# EAGLE library part ESP32-U4WDH (library my-EspressifSystems)
RF System on a Chip - SoC SMD IC WiFi Single Core BT Combo
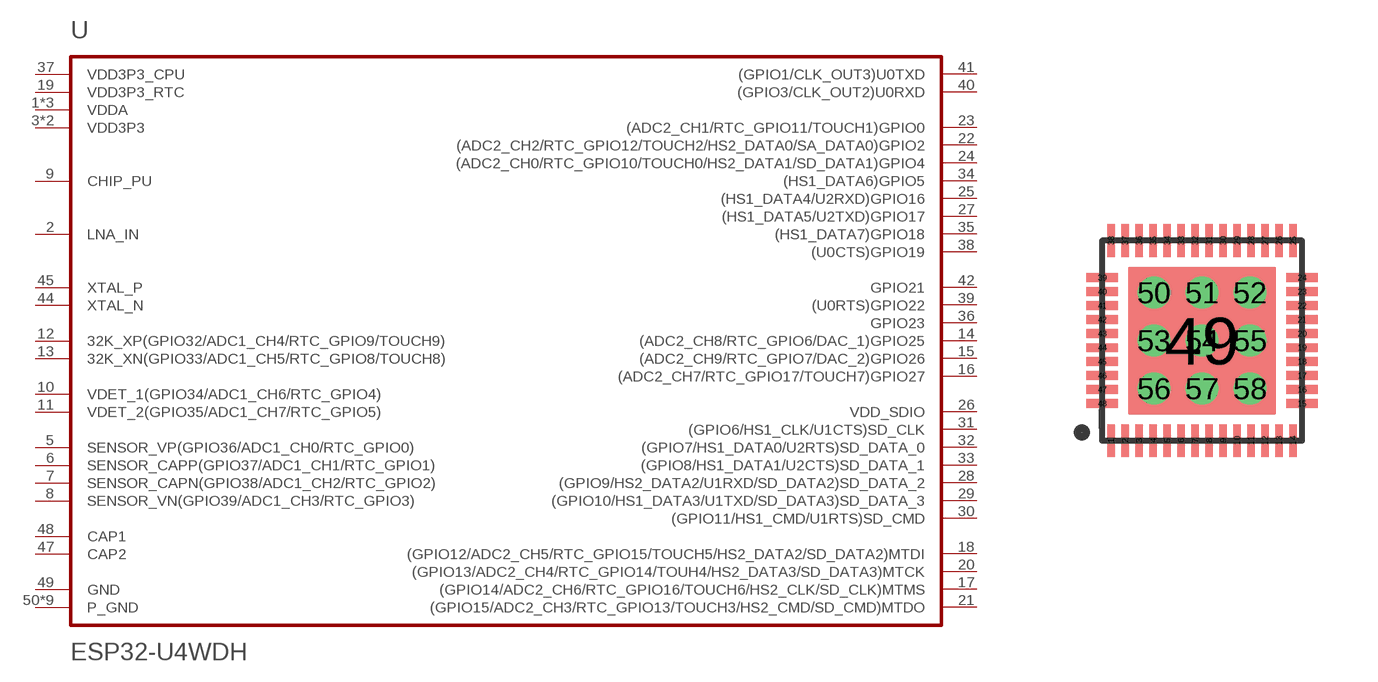
[diagram p0: symbol with the pads of QFN48(5X5MM); footprint QFN48(5X5MM)]

Designator prefix -

## ESP32-U4WDH  [QFN48(5X5MM)]
1  VDDA
2  LNA_IN
3  VDD3P3
4  VDD3P3
5  SENSOR_VP(GPIO36/ADC1_CH0/RTC_GPIO0)
6  SENSOR_CAPP(GPIO37/ADC1_CH1/RTC_GPIO1)
7  SENSOR_CAPN(GPIO38/ADC1_CH2/RTC_GPIO2)
8  SENSOR_VN(GPIO39/ADC1_CH3/RTC_GPIO3)
9  CHIP_PU
10  VDET_1(GPIO34/ADC1_CH6/RTC_GPIO4)
11  VDET_2(GPIO35/ADC1_CH7/RTC_GPIO5)
12  32K_XP(GPIO32/ADC1_CH4/RTC_GPIO9/TOUCH9)
13  32K_XN(GPIO33/ADC1_CH5/RTC_GPIO8/TOUCH8)
14  (ADC2_CH8/RTC_GPIO6/DAC_1)GPIO25
15  (ADC2_CH9/RTC_GPIO7/DAC_2)GPIO26
16  (ADC2_CH7/RTC_GPIO17/TOUCH7)GPIO27
17  (GPIO14/ADC2_CH6/RTC_GPIO16/TOUCH6/HS2_CLK/SD_CLK)MTMS
18  (GPIO12/ADC2_CH5/RTC_GPIO15/TOUCH5/HS2_DATA2/SD_DATA2)MTDI
19  VDD3P3_RTC
20  (GPIO13/ADC2_CH4/RTC_GPIO14/TOUH4/HS2_DATA3/SD_DATA3)MTCK
21  (GPIO15/ADC2_CH3/RTC_GPIO13/TOUCH3/HS2_CMD/SD_CMD)MTDO
22  (ADC2_CH2/RTC_GPIO12/TOUCH2/HS2_DATA0/SA_DATA0)GPIO2
23  (ADC2_CH1/RTC_GPIO11/TOUCH1)GPIO0
24  (ADC2_CH0/RTC_GPIO10/TOUCH0/HS2_DATA1/SD_DATA1)GPIO4
25  (HS1_DATA4/U2RXD)GPIO16
26  VDD_SDIO
27  (HS1_DATA5/U2TXD)GPIO17
28  (GPIO9/HS2_DATA2/U1RXD/SD_DATA2)SD_DATA_2
29  (GPIO10/HS1_DATA3/U1TXD/SD_DATA3)SD_DATA_3
30  (GPIO11/HS1_CMD/U1RTS)SD_CMD
31  (GPIO6/HS1_CLK/U1CTS)SD_CLK
32  (GPIO7/HS1_DATA0/U2RTS)SD_DATA_0
33  (GPIO8/HS1_DATA1/U2CTS)SD_DATA_1
34  (HS1_DATA6)GPIO5
35  (HS1_DATA7)GPIO18
36  GPIO23
37  VDD3P3_CPU
38  (U0CTS)GPIO19
39  (U0RTS)GPIO22
40  (GPIO3/CLK_OUT2)U0RXD
41  (GPIO1/CLK_OUT3)U0TXD
42  GPIO21
43  VDDA
44  XTAL_N
45  XTAL_P
46  VDDA
47  CAP2
48  CAP1
49  GND
50  P_GND
51  P_GND
52  P_GND
53  P_GND
54  P_GND
55  P_GND
56  P_GND
57  P_GND
58  P_GND

## Footprint QFN48(5X5MM) (pad centres in mm)
smd 0.2 x 0.8: 1 -2.275,-2.5; 2 -1.925,-2.5; 3 -1.575,-2.5; 4 -1.225,-2.5; 5 -0.875,-2.5; 6 -0.525,-2.5; 7 -0.175,-2.5; 8 0.175,-2.5; 9 0.525,-2.5; 10 0.875,-2.5; 11 1.225,-2.5; 12 1.575,-2.5; 13 1.925,-2.5; 14 2.275,-2.5; 25 2.275,2.5; 26 1.925,2.5; 27 1.575,2.5; 28 1.225,2.5; 29 0.875,2.5; 30 0.525,2.5; 31 0.175,2.5; 32 -0.175,2.5; 33 -0.525,2.5; 34 -0.875,2.5; 35 -1.225,2.5; 36 -1.575,2.5; 37 -1.925,2.5; 38 -2.275,2.5
smd 0.8 x 0.2: 15 2.5,-1.575; 16 2.5,-1.225; 17 2.5,-0.875; 18 2.5,-0.525; 19 2.5,-0.175; 20 2.5,0.175; 21 2.5,0.525; 22 2.5,0.875; 23 2.5,1.225; 24 2.5,1.575; 39 -2.5,1.575; 40 -2.5,1.225; 41 -2.5,0.875; 42 -2.5,0.525; 43 -2.5,0.175; 44 -2.5,-0.175; 45 -2.5,-0.525; 46 -2.5,-0.875; 47 -2.5,-1.225; 48 -2.5,-1.575
smd 3.7 x 3.7: 49 0,0
drill 0.3: 50 -1.2,1.2; 51 0,1.2; 52 1.2,1.2; 53 -1.2,0; 54 0,0; 55 1.2,0; 56 -1.2,-1.2; 57 0,-1.2; 58 1.2,-1.2